# Altium footprint library aiskylab-02Cap-02Tan_SMT.PcbLib: 14 footprints
Each footprint in its own frame and in the unit in brackets; x right, y up, seen from the top. Pads: shape width x height; smd on the part's side, far side on the other; paste and mask are expansions set on the pad; w line width, h text height; cw(c..) or ccw(c..) is an arc to the next point about the centre after c.
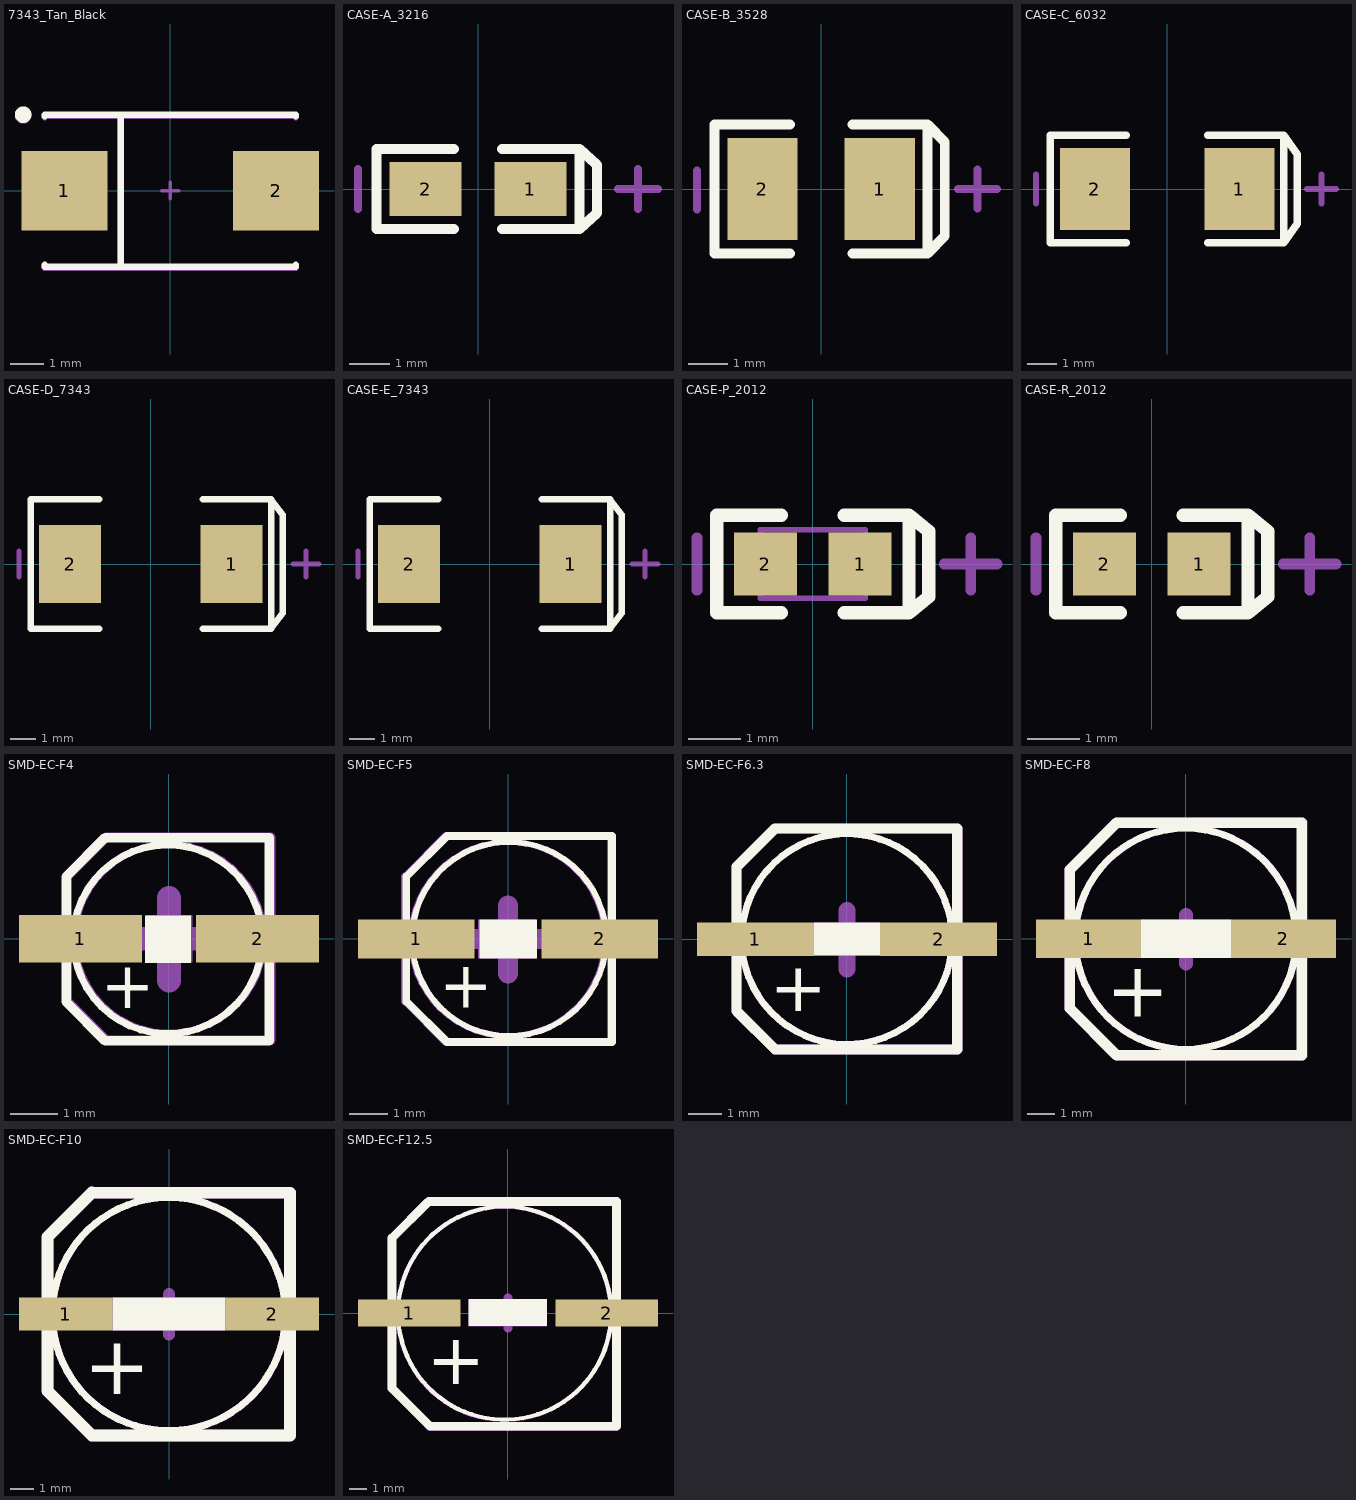
[diagram p0: the footprints below, top view; thin cyan lines are the x and y axes]

## 7343_Tan_Black [mm]
height 1.45
pads (2):
  rect 2.6x2.4 smd mask+0.07: 1(-3.2,0)
  rect 2.6x2.4 smd: 2(3.2,0)
Top Overlay:
  circle w0.25: c-4.45,2.3 r0.125
  lines w0.2: -3.8,-2.25 -3.8,-2.3 3.8,-2.3 3.8,-2.25 ; -3.8,2.25 -3.8,2.3 3.8,2.3 3.8,2.25 ; -1.5,-2.3 -1.5,2.3
Top Designator:
  text ".Designator" at -7.637,-0.446 h1.52
Top Assembly:
  circle w0.25: c-4.45,2.275 r0.125
  lines w0.2: -3.8,-2.275 -3.8,-2.325 3.8,-2.325 3.8,-2.275 ; -3.8,2.225 -3.8,2.275 3.8,2.275 3.8,2.225 ; -1.5,-2.325 -1.5,2.275
Top Component Center:
  lines w0.1: -0.254,0 0.254,0 ; 0,-0.254 0,0.254
3D body "2_92-2_29.stp": height 0.02, standoff 0, extent -4.66,-1.145 -1.74,1.145
3D body "2_92-2_29.stp": height 0.02, standoff 0, extent 1.74,-1.145 4.66,1.145
3D body "tpb_7343-28.stp": height 2.81, standoff 0, extent -3.65,-2.15 3.65,2.15

## CASE-A_3216 [mm]
pads (2):
  rect 1.8x1.35 smd: 1(1.31,0) 2(-1.31,0)
Top Overlay:
  lines w0.254: -0.6,-1.002 -2.537,-1.002 -2.537,1.002 -0.6,1.002 ; 0.6,-1.002 2.537,-1.002 ; 0.6,1.002 2.537,1.002 ; 2.537,-1.002 2.973,-0.6 2.973,0.6 2.537,1.002 ; 2.537,-1.002 2.537,1.002
Top Designator:
  text ".Designator" at -6.868,-0.508 h1.52
Bottom 3D Body:
  lines w0.203: -3,-0.5 -3,0.5 ; 3.5,0 4.5,0 ; 4,-0.5 4,0.5
3D body "User Library-AVX_ACASE.STEP": height 1.71, standoff 0, extent -1.7,-0.84 1.7,0.84

## CASE-B_3528 [mm]
pads (2):
  rect 1.8x2.6 smd: 1(1.5,0) 2(-1.5,0)
Top Overlay:
  lines w0.254: -0.8,-1.65 -2.727,-1.65 -2.727,1.65 -0.8,1.65 ; 0.8,-1.65 2.727,-1.65 ; 0.8,1.65 2.727,1.65 ; 2.727,-1.65 3.163,-1.2 3.163,1.2 2.727,1.65 ; 2.727,-1.65 2.727,1.65
Top Designator:
  text ".Designator" at -6.955,-0.508 h1.52
Bottom 3D Body:
  lines w0.203: -3.175,-0.525 -3.175,0.475 ; 3.5,0 4.5,0 ; 4,-0.5 4,0.5
3D body "User Library-AVX_BCASE.STEP": height 2.03, standoff 0, extent -1.85,-1.465 1.85,1.465

## CASE-C_6032 [mm]
pads (2):
  rect 2.4x2.8 smd: 1(2.48,0) 2(-2.48,0)
Top Overlay:
  lines w0.254: -1.4,-1.85 -4.007,-1.85 -4.007,1.85 -1.4,1.85 ; 1.4,-1.85 4.007,-1.85 ; 1.4,1.85 4.007,1.85 ; 4.007,-1.85 4.47,-1.2 4.47,1.2 4.007,1.85 ; 4.007,-1.85 4.007,1.85
Top Designator:
  text ".Designator" at -6.968,-0.508 h1.52
Bottom 3D Body:
  lines w0.203: -4.5,-0.5 -4.5,0.5 ; 4.8,0 5.8,0 ; 5.3,-0.5 5.3,0.5
3D body "User Library-AVX_C_CASE.STEP": height 2.7, standoff 0, extent -3.05,-1.675 3.05,1.675

## CASE-D_7343 [mm]
pads (2):
  rect 2.4x3 smd: 1(3.12,0) 2(-3.12,0)
Top Overlay:
  lines w0.254: -2,-2.5 -4.647,-2.5 -4.647,2.5 -2,2.5 ; 2,-2.5 4.647,-2.5 ; 2,2.5 4.647,2.5 ; 4.647,-2.5 5.1,-1.9 5.1,1.9 4.647,2.5 ; 4.647,-2.5 4.647,2.5
Top Designator:
  text ".Designator" at -6.918,-0.508 h1.52
Bottom 3D Body:
  lines w0.203: -5.1,-0.5 -5.1,0.5 ; 5.5,0 6.5,0 ; 6,-0.5 6,0.5
3D body "User Library-AVX_D_CASE.STEP": height 3.01, standoff 0, extent -3.7,-2.225 3.7,2.225

## CASE-E_7343 [mm]
pads (2):
  rect 2.4x3 smd: 1(3.12,0) 2(-3.12,0)
Top Overlay:
  lines w0.254: -2,-2.5 -4.647,-2.5 -4.647,2.5 -2,2.5 ; 2,-2.5 4.647,-2.5 ; 2,2.5 4.647,2.5 ; 4.647,-2.5 4.647,2.5 ; 4.647,-2.5 5.1,-1.9 5.1,1.9 4.647,2.5
Top Designator:
  text ".Designator" at -6.918,-0.508 h1.52
Bottom 3D Body:
  lines w0.203: -5.1,-0.5 -5.1,0.5 ; 5.5,0 6.5,0 ; 6,-0.5 6,0.5
3D body "User Library-AVX_E_CASE.STEP": height 4.2, standoff 0, extent -3.701,-2.225 3.7,2.225

## CASE-P_2012 [mm]
pads (2):
  rect 1.2x1.2 smd: 1(0.9,0) 2(-0.9,0)
Top Overlay:
  lines w0.254: -0.6,-0.927 -1.827,-0.927 -1.827,0.927 -0.6,0.927 ; 0.6,-0.927 1.827,-0.927 ; 0.6,0.927 1.827,0.927 ; 1.827,-0.927 1.827,0.927 ; 1.827,-0.927 2.2,-0.623 2.2,0.623 1.827,0.927
Top Designator:
  text ".Designator" at -6.968,-0.508 h1.52
Top 3D Body:
  lines w0.1: -1,-0.65 -1,0.65 1,0.65 1,-0.65 -1,-0.65
Bottom 3D Body:
  lines w0.203: -2.2,-0.5 -2.2,0.5 ; 2.5,0 3.5,0 ; 3,-0.5 3,0.5

## CASE-R_2012 [mm]
pads (2):
  rect 1.2x1.2 smd: 1(0.9,0) 2(-0.9,0)
Top Overlay:
  lines w0.254: -0.6,-0.927 -1.827,-0.927 -1.827,0.927 -0.6,0.927 ; 0.6,-0.927 1.827,-0.927 ; 0.6,0.927 1.827,0.927 ; 1.827,-0.927 2.2,-0.623 2.2,0.623 1.827,0.927 ; 1.827,-0.927 1.827,0.927
Top Designator:
  text ".Designator" at -6.968,-0.508 h1.52
Bottom 3D Body:
  lines w0.203: -2.2,-0.5 -2.2,0.5 ; 2.5,0 3.5,0 ; 3,-0.5 3,0.5
3D body "User Library-CaseR_2012-12.STEP": height 1.2, standoff 0, extent -1,-0.65 1,0.65

## SMD-EC-F4 [mm]
pads (2):
  rect 2.6x1 smd: 1(-1.877,0) 2(1.877,0)
Top Overlay:
  rectangle: -0.51,-0.51 0.467,0.488
  lines w0.152: 1.748,0.913 ccw(c-0.025,-0.011) 1.75,0.91
  lines w0.203: 2.124,2.14 -1.351,2.14 -2.177,1.314 -2.177,-1.336 -1.351,-2.161 2.125,-2.161 2.125,2.139
  text "+" at -1.442,-1.471 h1
Top Designator:
  text ".Designator" at -7.618,-0.513 h1.52
Top Assembly:
  rectangle: -0.485,-0.499 0.492,0.499
  lines w0.152: 1.774,0.924 ccw(c0,0) 1.775,0.921
  lines w0.203: 2.149,2.15 -1.326,2.15 -2.151,1.325 -2.151,-1.325 -1.326,-2.15 2.15,-2.15 2.15,2.15
  text "+" at -1.416,-1.46 h1
Top Component Center:
  lines w0.508: -0.838,0 0.838,0 ; 0,-0.889 0,0.864
3D body "User Library-CAP SMD SVP 4_0x5_4.STEP": height 5.5, standoff 0.1, extent -2.525,-2.15 2.475,2.15

## SMD-EC-F5 [mm]
pads (2):
  rect 3x1 smd: 1(-2.363,0) 2(2.363,0)
Top Overlay:
  rectangle: -0.739,-0.5 0.742,0.5
  lines w0.152: 2.198,1.239 ccw(c0.027,0) 2.201,1.235
  lines w0.203: 2.678,-2.654 2.678,2.654 -1.571,2.654 -2.621,1.605 -2.621,-1.605 -1.572,-2.654 2.677,-2.654
  text "+" at -1.769,-1.777 h1.2
Top Designator:
  text ".Designator" at -7.618,-0.508 h1.52
Top Assembly:
  rectangle: -0.767,-0.5 0.715,0.5
  lines w0.152: 2.171,1.239 ccw(c0,0) 2.174,1.235
  lines w0.203: 2.65,-2.654 2.65,2.654 -1.599,2.654 -2.648,1.605 -2.648,-1.605 -1.599,-2.654 2.65,-2.654
  text "+" at -1.796,-1.777 h1.2
Top Component Center:
  lines w0.508: -0.838,0 0.838,0 ; 0,-0.889 0,0.864
3D body "User Library-CAP SMD SVP 5_0x5_9.STEP": height 6, standoff 0.1, extent -3.05,-2.65 2.949,2.65

## SMD-EC-F6.3 [mm]
pads (2):
  rect 3.5x1 smd: 1(-2.737,0) 2(2.737,0)
Top Overlay:
  rectangle: -0.991,-0.496 0.993,0.5
  lines w0.203: 2.93,1.154 cw(c-0.001,0.002) 2.93,1.156
  lines w0.305: -2.151,-3.303 -3.301,-2.152 -3.301,2.163 -2.151,3.314 ; -2.148,-3.305 3.299,-3.305 3.299,3.309 -2.145,3.309
  text "+" at -2.307,-2.164 h1.5
Top Designator:
  text ".Designator" at -7.618,-0.503 h1.52
Top Assembly:
  rectangle: -0.991,-0.496 0.993,0.5
  lines w0.203: 2.93,1.154 cw(c-0.001,0.002) 2.93,1.156
  lines w0.305: -2.151,-3.303 -3.301,-2.152 -3.301,2.163 -2.151,3.314 ; -2.148,-3.305 3.299,-3.305 3.299,3.309 -2.145,3.309
  text "+" at -2.307,-2.164 h1.5
Top Component Center:
  lines w0.508: -0.838,0 0.838,0 ; 0,-0.889 0,0.864
3D body "User Library-CAP SMD SVP 6_3x5_9.STEP": height 6, standoff 0.1, extent -3.662,-3.325 3.638,3.275

## SMD-EC-F8 [mm]
pads (2):
  rect 3.8x1.4 smd: 1(-3.525,0) 2(3.525,0)
Top Overlay:
  rectangle: -1.636,-0.7 1.627,0.7
  lines w0.254: 3.99,0 ccw(c-0.01,0) 3.99,0
  lines w0.381: -4.211,2.499 -2.512,4.198 ; -4.211,2.499 -4.211,-2.52 -2.512,-4.219 4.189,-4.219 4.189,4.198 -2.512,4.198 ; -4.211,2.499 -2.512,4.198
  text "+" at -2.885,-2.818 h2
Top Designator:
  text ".Designator" at -7.618,-0.518 h1.52
Top Assembly:
  rectangle: -1.626,-0.7 1.638,0.7
  lines w0.254: 4,0 ccw(c0,0) 4,0
  lines w0.381: -4.201,2.499 -2.502,4.198 ; -4.201,2.499 -4.201,-2.52 -2.502,-4.22 4.199,-4.22 4.199,4.198 -2.502,4.198 ; -4.201,2.499 -2.502,4.198
  text "+" at -2.875,-2.818 h2
Top Component Center:
  lines w0.508: -0.838,0 0.838,0 ; 0,-0.889 0,0.864
3D body "User Library-AL_EL_cap_8mmx10mm.STEP": height 10.4, standoff -0.1, extent -4.825,-4.275 4.875,4.225

## SMD-EC-F10 [mm]
pads (2):
  rect 4x1.4 smd: 1(-4.43,0) 2(4.43,0)
Top Overlay:
  circle w0.305: c-0.007,0 r5
  rectangle: -2.424,-0.701 2.419,0.707
  lines w0.508: -3.31,5.203 -5.207,3.306 -5.207,-3.304 -3.31,-5.201 5.19,-5.201 5.19,5.2 -3.307,5.2
  text "+" at -3.649,-3.44 h2.5
Top Designator:
  text ".Designator" at -7.618,-0.507 h1.52
Top Assembly:
  circle w0.305: c0,0 r5
  rectangle: -2.417,-0.701 2.427,0.707
  lines w0.508: -3.302,5.203 -5.2,3.306 -5.2,-3.304 -3.302,-5.201 5.198,-5.201 5.198,5.2 -3.299,5.2
  text "+" at -3.642,-3.44 h2.5
Top Component Center:
  lines w0.508: -0.838,0 0.838,0 ; 0,-0.889 0,0.864
3D body "User Library-cap_10x10x10-1.STEP": height 10.3, standoff -0.2, extent -5.86,-5.171 5.94,5.329

## SMD-EC-F12.5 [mm]
pads (2):
  rect 6x1.6 smd: 1(-5.798,0) 2(5.798,0)
Top Overlay:
  circle w0.254: c-0.2,-0.004 r6.25
  rectangle: -2.306,-0.773 2.276,0.828
  lines w0.508: -6.799,-4.407 -4.57,-6.636 6.364,-6.636 6.364,6.541 -4.654,6.541 -4.706,6.489 -6.799,4.396 -6.799,-4.407
  text "+" at -4.753,-4.172 h3
Top Designator:
  text ".Designator" at -7.618,-0.566 h1.52
Top Assembly:
  circle w0.254: c-0.21,-0.025 r6.25
  rectangle: -2.316,-0.795 2.266,0.806
  lines w0.508: -6.809,-4.429 -4.58,-6.658 6.354,-6.658 6.354,6.519 -4.664,6.519 -4.716,6.467 -6.809,4.374 -6.809,-4.429
  text "+" at -4.763,-4.194 h3
Top Component Center:
  lines w0.508: -0.838,0.013 0.838,0.013 ; 0,-0.876 0,0.876
3D body "User Library-A3D-003-00018.STEP": height 13.6, standoff 0.1, extent -7.601,-6.821 7.298,6.679